# EAGLE library part 687124183722 (library Eagle_FPC_CONNECTOR_AND_FFC_CAB (rev18c))
687124183722 WR-FPC 0.50mm SMT Horizontal Bottom Contact - Low Profile <http://katalog.we-online.de/media/images/v2/Family_WR-FPC_6871xx183722.jpg> Details see: http://katalog.we-online.de/en/em/FPC_0_5_SMT_ZIF_HORIZONTAL_BOTTOM_CONTACT_LOW_PROFILE_6871xx183722 Created by Yingchun,shan 2016 (C) Wurth Elektronik
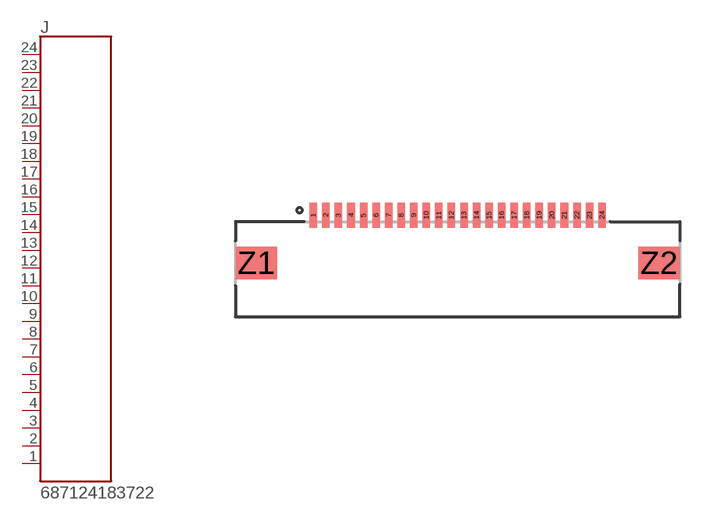
[diagram p204: symbol with the pads of 687124183722; footprint 687124183722]

Designator prefix J

## 687124183722  [687124183722]
1  24  pas
2  23  pas
3  22  pas
4  21  pas
5  20  pas
6  19  pas
7  18  pas
8  17  pas
9  16  pas
10  15  pas
11  14  pas
12  13  pas
13  12  pas
14  11  pas
15  10  pas
16  9  pas
17  8  pas
18  7  pas
19  6  pas
20  5  pas
21  4  pas
22  3  pas
23  2  pas
24  1  pas

## Footprint 687124183722 (pad centres in mm)
smd 0.3 x 1: 1 -5.75,1.9; 2 -5.25,1.9; 3 -4.75,1.9; 4 -4.25,1.9; 5 -3.75,1.9; 6 -3.25,1.9; 7 -2.75,1.9; 8 -2.25,1.9; 9 -1.75,1.9; 10 -1.25,1.9; 11 -0.75,1.9; 12 -0.25,1.9; 13 0.25,1.9; 14 0.75,1.9; 15 1.25,1.9; 16 1.75,1.9; 17 2.25,1.9; 18 2.75,1.9; 19 3.25,1.9; 20 3.75,1.9; 21 4.25,1.9; 22 4.75,1.9; 23 5.25,1.9; 24 5.75,1.9
smd 1.65 x 1.3: Z1 -8.025,0; Z2 8.025,0